# EAGLE library part TINY4/5/9/10 (library bt_avr)
ATtiny4, ATtiny5, ATtiny9, ATtiny10 Atmel 8-bit AVR Microcontroller with 512/1024 Bytes In-System Programmable Flash Datasheet.pdf <http://www.atmel.com/Images/Atmel-8127-AVR-8-bit-Microcontroller-ATtiny4-ATtiny5-ATtiny9-ATtiny10_Datasheet.pdf>
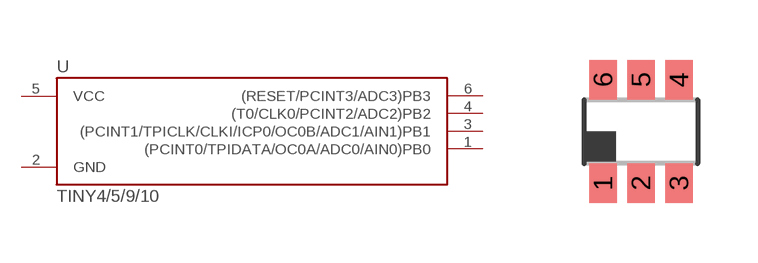
[diagram p4: symbol with the pads of SOT-23-6; footprint SOT-23-6]

Designator prefix U

## TINY4/5/9/10-TSHR/TS8R  [SOT-23-6]
1  (PCINT0/TPIDATA/OC0A/ADC0/AIN0)PB0
2  GND
3  (PCINT1/TPICLK/CLKI/ICP0/OC0B/ADC1/AIN1)PB1
4  (T0/CLK0/PCINT2/ADC2)PB2
5  VCC
6  (RESET/PCINT3/ADC3)PB3

## Footprint SOT-23-6 (pad centres in mm)
smd 0.69 x 0.99: 1 -0.95,-1.29; 2 0,-1.29; 3 0.95,-1.29; 4 0.95,1.3; 5 0,1.3; 6 -0.95,1.3